# Altium schematic symbol library SchComponents.SchLib: 9 symbols
Pins are listed as number, name and electrical type; pins without a type are passive.

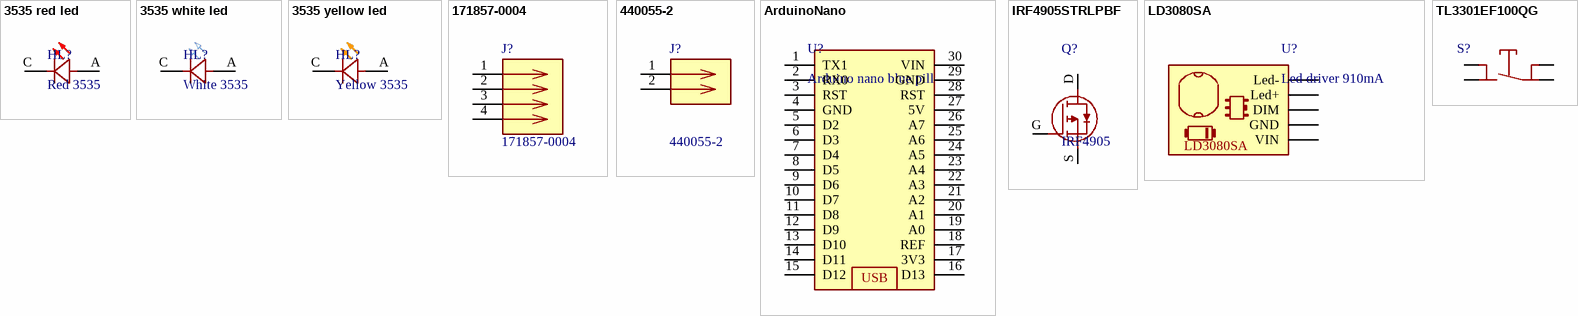
[diagram p0: symbols 3535 red led to TL3301EF100QG]

## 3535 red led
designator HL?, comment Red 3535
footprint 150353FS74500
pins: A, C CK

## 3535 white led
designator HL?, comment White 3535
footprint 150353FS74500
pins: A, C CK

## 3535 yellow led
designator HL?, comment Yellow 3535
footprint 150353FS74500
pins: A, C CK

## 171857-0004
designator J?
KK 254 RPC Pin Header right angle 4way Molex KK 254 Series, Series Number 171857, 2.54mm Pitch 4 Way 1 Row Right Angle PCB Header, Through Hole; Geometry.Height: 6.35mm; Mouser Part Number: 538-171857-0004; Mouser Price/Stock: https://www.mouser.co.uk/ProductDetail/Molex/171857-0004?qs=vOeJqewp7jCR1L%252BJpRVw7w%3D%3D; Manufacturer_Name: Molex; Manufacturer_Part_Number: 171857-0004; Datasheet Link: http://www.molex.com/webdocs/datasheets/pdf/en-us//1718570004_PCB_HEADERS.pdf
footprint 171857-0004
pins: 1, 2, 3, 4

## 440055-2
designator J?
Body Features: Primary Product Color Natural; Manufacturer_Name: TE Connectivity; Geometry.Height: 5.25mm; Mouser Part Number: 571-440055-2; Mouser Price/Stock: https://www.mouser.co.uk/ProductDetail/TE-Connectivity/440055-2?qs=DE9Qji9blsSmCkgS7fKI6w%3D%3D; Manufacturer_Part_Number: 440055-2; Datasheet Link: https://www.te.com/commerce/DocumentDelivery/DDEController?Action=srchrtrv&DocNm=1-1773713-2_HPI_QRG_EN&DocType=Data%20Sheet&DocLang=English&PartCntxt=440055-2&DocFormat=pdf
footprint SHDRRA2W50P0X200_1X2_600X770X525P
pins: 1, 2

## ArduinoNano
designator U?, comment Arduino nano blue pill
footprint ArduinoNanoBluePill
pins: 1 TX1, 2 RX0, 3 RST, 4 GND, 5 D2, 6 D3, 7 D4, 8 D5, 9 D6, 10 D7, 11 D8, 12 D9, 13 D10, 14 D11, 15 D12, 16 D13, 17 3V3, 18 REF, 19 A0, 20 A1, 21 A2, 22 A3, 23 A4, 24 A5, 25 A6, 26 A7, 27 5V, 28 RST, 29 GND, 30 VIN
text: USB

## IRF4905STRLPBF
designator Q?, comment IRF4905
P-channel MOSFET with a maximum continuous drain current of 74 A, maximum operating voltage of 55 V, and maximum power dissipation of 170 W.; Manufacturer_Name: Infineon; Manufacturer_Part_Number: IRF4905STRLPBF; Geometry.Height: 4.83mm; Mouser Part Number: 942-IRF4905STRLPBF; Mouser Price/Stock: https://www.mouser.co.uk/ProductDetail/Infineon-Technologies/IRF4905STRLPBF?qs=9%252BKlkBgLFf1nPwXuyqKOOQ%3D%3D; Datasheet Link: https://www.infineon.com/dgdl/irf4905spbf.pdf?fileId=5546d462533600a4015355e331c41980
footprint IRF4905STRLPBF
pins: D, G, S

## LD3080SA
designator U?, comment Led driver 910mA
footprint LD3080SA
pins: 1 VIN, 2 GND, 3 DIM, 4 Led+, 5 Led-

## TL3301EF100QG
designator S?, comment BTN  (value not drawn)
SWITCH TACTILE SPST-NO 0.05A; Manufacturer_Name: E-Switch; Manufacturer_Part_Number: TL3301EF100QG; Description: TACT; Datasheet Link: https://configured-product-images.s3.amazonaws.com/2D/specs/TL3301EF100QG.pdf; Height: 7.4mm; Mouser Part Number: 612-TL3301EF; Mouser Price/Stock: https://www.mouser.co.uk/ProductDetail/E-Switch/TL3301EF100QG?qs=iWbXB9lueyBOmcew73zYTQ%3D%3D
footprint TL3301EF100QG
pins: 1, 2, 3, 4